# EAGLE library part AT25DF081A (library parts)
8-MBit 2.7V Minimum Serial Peripheral Interface Serial Flash Memory
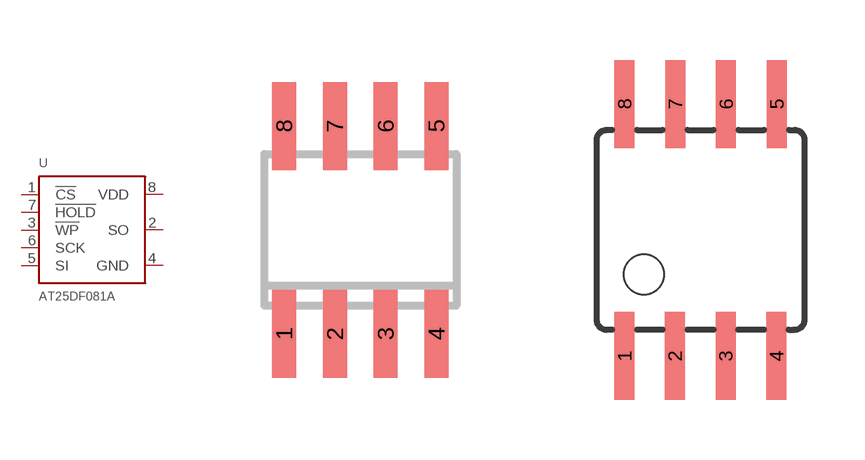
[diagram p8: symbol with the pads of SO8; footprints SO8, SOIC8]

Designator prefix U

## AT25DF081A-SS (RS: 738-0094)  [SO8]
1  !CS  in
2  SO  hiz
3  !WP  in
4  GND  pwr
5  SI  in
6  SCK  in
7  !HOLD  in
8  VDD  pwr

## AT25DF081A-S (RS: 738-0085)  [SOIC8]
Pads as for SO8

## Footprint SO8 (pad centres in mm)
8-Lead Small Outline IC (SO-8) JEDEC 150mil body, Source: http://www.analog.com/UploadedFiles/Data_Sheets/703465986AD8611_2_0.pdf
smd 0.6 x 2.2: 1 -1.905,-2.6; 2 -0.635,-2.6; 3 0.635,-2.6; 4 1.905,-2.6; 5 1.905,2.6; 6 0.635,2.6; 7 -0.635,2.6; 8 -1.905,2.6

## Footprint SOIC8 (pad centres in mm)
8-Lead Small Outline IC (SO-8) EIAJ 200mil body, Source: atmel.lbr
smd 0.5 x 2.2: 1 -1.905,-3.154; 2 -0.645,-3.154; 3 0.625,-3.154; 4 1.895,-3.154; 5 1.905,3.154; 6 0.635,3.154; 7 -0.635,3.154; 8 -1.905,3.154